# EAGLE library part IR4428* (library 0-svo-motor-mosfet)
The IR4426/IR4427/IR4428 (S) is a low voltage, high speed power MOSFET and IGBT driver.
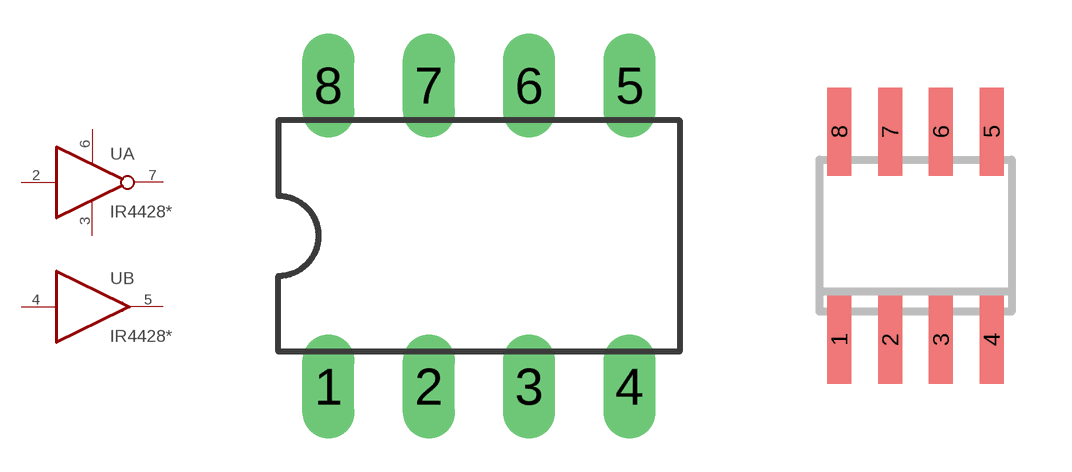
[diagram p1: symbol with the pads of DIL08; footprints DIL08, SO08]

Designator prefix U; gates A=GATEDRV_INV B=GATEDRV_NONINV

## IR4428  [DIL08]
2  A:I  in
3  A:GND  pas
4  B:I  in
5  B:O  oc
6  A:VS  pas
7  A:O  oc

## IR4428S  [SO08]
Pads as for DIL08

## Footprint DIL08 (pad centres in mm)
Dual In Line Package
drill 0.813 long: 1 -3.81,-3.81; 2 -1.27,-3.81; 3 1.27,-3.81; 4 3.81,-3.81; 5 3.81,3.81; 6 1.27,3.81; 7 -1.27,3.81; 8 -3.81,3.81

## Footprint SO08 (pad centres in mm)
SMALL OUTLINE INTEGRATED CIRCUIT body 3.9 mm/JEDEC MS-012AA
smd 0.6 x 2.2: 1 -1.905,-2.6; 2 -0.635,-2.6; 3 0.635,-2.6; 4 1.905,-2.6; 5 1.905,2.6; 6 0.635,2.6; 7 -0.635,2.6; 8 -1.905,2.6